# Altium schematic symbol library DIO-Schottky.SchLib: 1 symbol
Pins are listed as number, name and electrical type; pins without a type are passive.

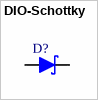
[diagram p0: symbol DIO-Schottky]

## DIO-Schottky
designator D?  (value not drawn)
pins: A, K